# Altium schematic symbol library RES-0402-TEST.SchLib: 1 symbol
Pins are listed as number, name and electrical type; pins without a type are passive.

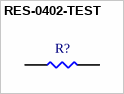
[diagram p0: symbol RES-0402-TEST]

## RES-0402-TEST
designator R?  (value not drawn)
Resistor library test 0402 package resistor
footprint RES0402 (Generic 0402 PCB Footprint)
pins: 1, 2